# EAGLE library part 440GS67082622 (library Wurth_Switch_WS-TATL)
WS-TATL Illuminated THT Tact Switch 12 x 12 mm Properties Diffuser Plate Flammability Rating:UL94 HB Actuator Material:PA66 Actuator Flammability Rating:UL94 HB Actuator Color:White Frame Material:PA66 Frame Flammability Rating:UL94 HB Frame Color:Black Contact Material:Stainless Steel Contact Plating:Silver Terminal Material:Copper Alloy Terminal Plating:Silver LED Terminal:Copper Alloy LED Terminal Plating:Tin Qty.:150 Emitting Color:Blue; Bright Green & Red; Green; Red; Yellow Lens Type:Waterclear Material Properties Diffuser Platel:PC Electrical Properties Rated Current :12 V (DC); 50 mA Mechanical Properties Operation Force:160 g General Information Operating Temperature:-40 up to +85 °C Packaging Properties Packaging :ESD Tray <https://www.we-online.com/catalog/media/o61151v209%20Family_WS_TLT_Illuminated_440xx67082622_pf2.jpg> Details see: https://www.we-online.com/catalog/en/TATL_12X12_THT/ Updated by yingchun,Shan;2020-02-25 2020(C) Würth Elektronik
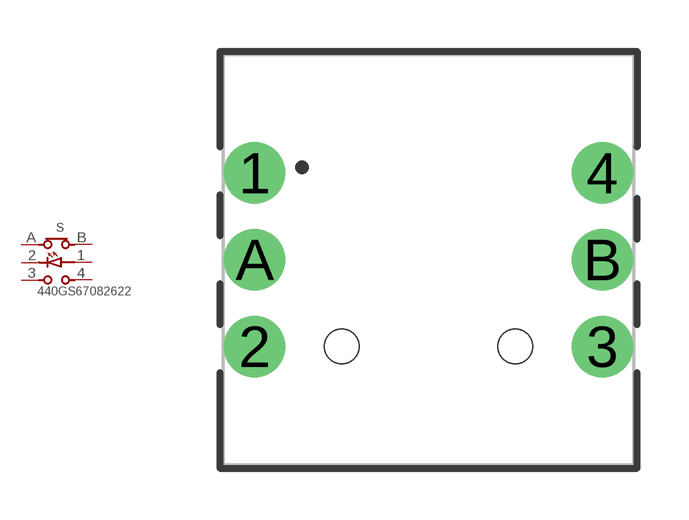
[diagram p0: symbol with the pads of 440GS67082622; footprint 440GS67082622]

Designator prefix S

## 440GS67082622 (DATASHEET-URL: https://www.we-online.com/catalog/datasheet/440GS67082622.pdf; PART-NUMBER: 440GS67082622; QTY: 150)  [440GS67082622]
1  1  pas
2  2  pas
3  3  pas
4  4  pas
A  A  pas
B  B  pas

## Footprint 440GS67082622 (pad centres in mm)
WS-TATL Illuminated THT Tact Switch 12 x 12 mm
drill 1.2: 1 -5.08,2.54; 2 -5.08,-2.54; 3 5.08,-2.54; 4 5.08,2.54; A -5.08,0; B 5.08,0
hole 1 at -2.54,-2.54
hole 1 at 2.54,-2.54